# EAGLE library part PCM2704C (library pcm2704c)
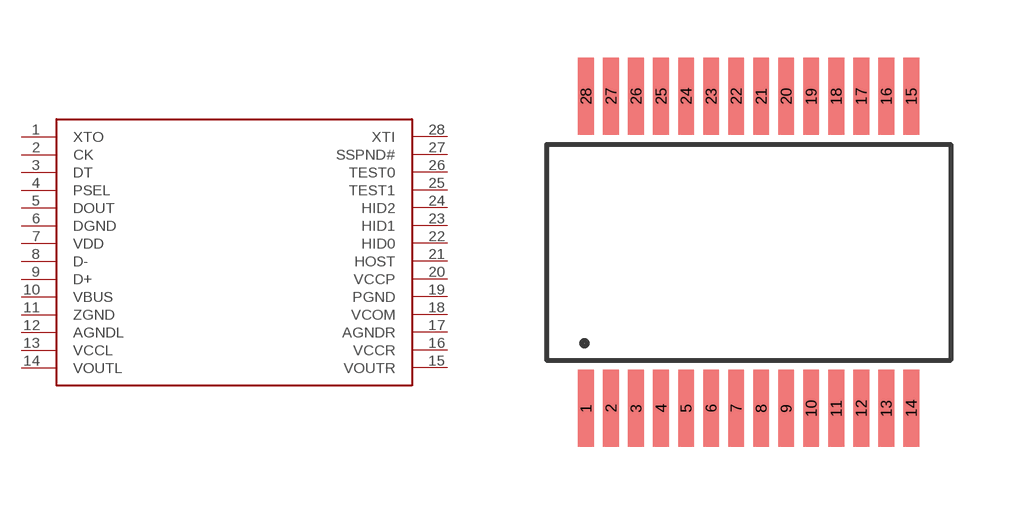
[diagram p0: symbol with the pads of PCM2704C; footprint PCM2704C]

Designator prefix -

## PCM2704C  [PCM2704C]
1  XTO
2  CK
3  DT
4  PSEL
5  DOUT
6  DGND
7  VDD
8  D-
9  D+
10  VBUS
11  ZGND
12  AGNDL
13  VCCL
14  VOUTL
15  VOUTR
16  VCCR
17  AGNDR
18  VCOM
19  PGND
20  VCCP
21  HOST
22  HID0
23  HID1
24  HID2
25  TEST1
26  TEST0
27  SSPND#
28  XTI

## Footprint PCM2704C (pad centres in mm)
smd 0.41 x 2: 1 -4.225,-4.05; 2 -3.575,-4.05; 3 -2.925,-4.05; 4 -2.275,-4.05; 5 -1.625,-4.05; 6 -0.975,-4.05; 7 -0.325,-4.05; 8 0.325,-4.05; 9 0.975,-4.05; 10 1.625,-4.05; 11 2.275,-4.05; 12 2.925,-4.05; 13 3.575,-4.05; 14 4.225,-4.05; 15 4.225,4.05; 16 3.575,4.05; 17 2.925,4.05; 18 2.275,4.05; 19 1.625,4.05; 20 0.975,4.05; 21 0.325,4.05; 22 -0.325,4.05; 23 -0.975,4.05; 24 -1.625,4.05; 25 -2.275,4.05; 26 -2.925,4.05; 27 -3.575,4.05; 28 -4.225,4.05